# Altium schematic symbol library J1021AS512VDCP45.SchLib: 2 symbols
Pins are listed as number, name and electrical type; pins without a type are passive.

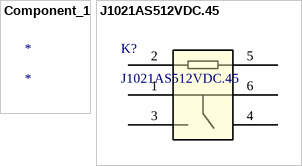
[diagram p0: symbols Component_1 to J1021AS512VDC.45]

## Component_1
designator *

## J1021AS512VDC.45
designator K?
No Description Available; Mfr_Name: CIT Relay & Switch; Type: DEV; Copyright: Copyright (C) 2023 Ultra Librarian. All rights reserved.; Manufacturer_Part_Number: J1021AS512VDC.45; RefDes: RefDes
footprint RELAY6_J102_CRS
pins: 1, 2, 3, 4, 5, 6